# EAGLE library part 418317170904 (library Eagle_Wuerth_Elektronik_Switch)
WS-PT 2.54 mm piano type compact THT Dip Switch with flat actuator, 4 Pole
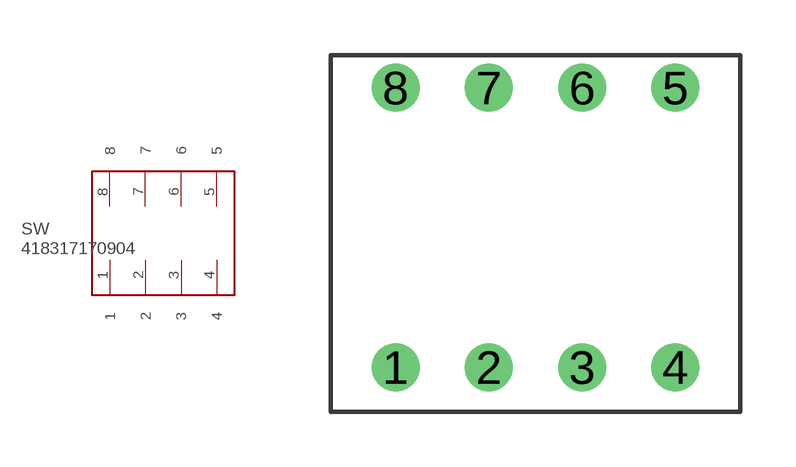
[diagram p101: symbol with the pads of 418317170904; footprint 418317170904]

Designator prefix SW

## 418317170904  [418317170904]
1  1
2  2
3  3
4  4
5  5
6  6
7  7
8  8

## Footprint 418317170904 (pad centres in mm)
WS-PT 2.54 mm piano type compact THT Dip Switch with flat actuator, 4 Pole
drill 0.8: 1 0,-3.81; 2 2.54,-3.81; 3 5.08,-3.81; 4 7.62,-3.81; 5 7.62,3.81; 6 5.08,3.81; 7 2.54,3.81; 8 0,3.81